# Altium schematic symbol library SCH_ConnectorHDR.SchLib: 36 symbols
Pins are listed as number, name and electrical type; pins without a type are passive.

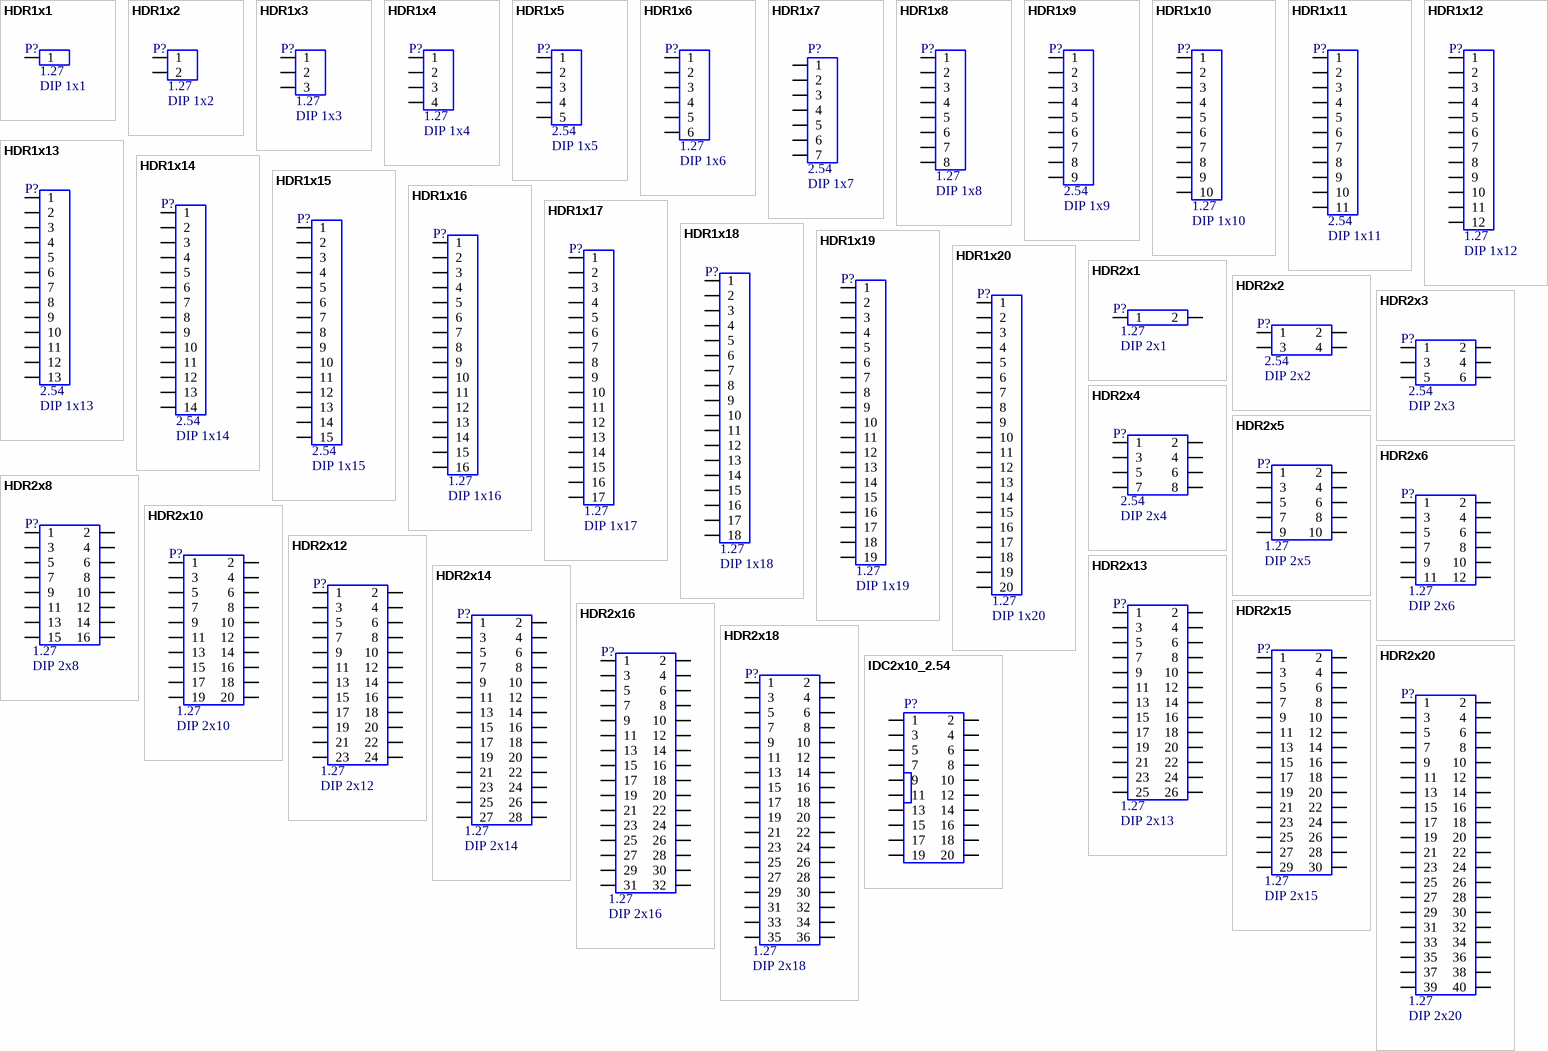
[diagram p0: symbols HDR1x1 to IDC2x10_2.54]

## HDR1x1
designator P?, comment Type: 1.27  (hidden comment: DIP 1x1)
Header; Value: DIP 1x1
footprint HDR1X1_1.27_180
pins: 1

## HDR1x2
designator P?, comment Type: 1.27  (hidden comment: DIP 1x2)
Header; Value: DIP 1x2
footprint HDR1X2_1.27_180
footprint HDR1X2_1.27_180H
footprint HDR1X2_2.54_90
footprint HDR1X2_2.54_90F
footprint HDR1X2_2.54_180
footprint HDR1X2_2.54_180F
footprint HDR1X2_2.54_180HD
pins: 1, 2

## HDR1x3
designator P?, comment Type: 1.27  (hidden comment: DIP 1x3)
Header; Value: DIP 1x3
footprint HDR1X3_1.27_180HF
footprint HDR1X3_2.54_90
footprint HDR1X3_1.27_180
footprint HDR1X3_2.54_90F
footprint HDR1X3_2.54_180
footprint HDR1X3_2.54_180F
pins: 1, 2, 3

## HDR1x4
designator P?, comment Type: 1.27  (hidden comment: DIP 1x4)
Header; Value: DIP 1x4
footprint HDR1X4_1.27_180HF
footprint HDR1X4_2.54_90
footprint HDR1X4_1.27_180
footprint HDR1X4_2.54_90F
footprint HDR1X4_2.54_180
footprint HDR1X4_1.27_180H
footprint HDR1X4_1.27_180F
footprint HDR1X4_2.54_180H
footprint HDR1X4_2.54_180HF
pins: 1, 2, 3, 4

## HDR1x5
designator P?, comment Type: 2.54  (hidden comment: DIP 1x5)
Header; Value: DIP 1x5
footprint HDR1X5_2.54_180
footprint HDR1X5_2.54_180H
pins: 1, 2, 3, 4, 5

## HDR1x6
designator P?, comment Type: 1.27  (hidden comment: DIP 1x6)
Header; Value: DIP 1x6
footprint HDR1X6_1.27_180HF
footprint HDR1X6_2.54_90
footprint HDR1X6_2.54_90F
footprint HDR1X6_2.54_180
footprint HDR1X6_1.27_180H
footprint HDR1X6_1.27_180F
footprint HDR1X6_2.54_180F
pins: 1, 2, 3, 4, 5, 6

## HDR1x7
designator P?, comment Type: 2.54  (hidden comment: DIP 1x7)
Header; Value: DIP 1x7
footprint HDR1X7_2.54_180
footprint HDR1X7_2.54_180H
pins: 1, 2, 3, 4, 5, 6, 7

## HDR1x8
designator P?, comment Type: 1.27  (hidden comment: DIP 1x8)
Header; Value: DIP 1x8
footprint HDR1X8_1.27_180HF
footprint HDR1X8_1.27_180
footprint HDR1X8_2.54_180
footprint HDR1X8_1.27_180H
footprint HDR1X8_1.27_180F
footprint HDR1X8_2.54_180F
footprint HDR1X8_2.54_180S
pins: 1, 2, 3, 4, 5, 6, 7, 8

## HDR1x9
designator P?, comment Type: 2.54  (hidden comment: DIP 1x9)
Header; Value: DIP 1x9
footprint HDR1X9_2.54_180
pins: 1, 2, 3, 4, 5, 6, 7, 8, 9

## HDR1x10
designator P?, comment Type: 1.27  (hidden comment: DIP 1x10)
Header; Value: DIP 1x10
footprint HDR1X10_1.27_180HF
footprint HDR1X10_2.54_90
footprint HDR1X10_1.27_180
footprint HDR1X10_2.54_180
footprint HDR1X10_1.27_180F
footprint HDR1X10_2.54_180H
footprint HDR1X10_2.54_180F
pins: 1, 2, 3, 4, 5, 6, 7, 8, 9, 10

## HDR1x11
designator P?, comment Type: 2.54  (hidden comment: DIP 1x11)
Header; Value: DIP 1x11
footprint HDR1X11_2.54_180
pins: 1, 2, 3, 4, 5, 6, 7, 8, 9, 10, 11

## HDR1x12
designator P?, comment Type: 1.27  (hidden comment: DIP 1x12)
Header; Value: DIP 1x12
footprint HDR1X12_2.54_90
footprint HDR1X12_1.27_180
footprint HDR1X12_2.54_180
footprint HDR1X12_2.54_180H
footprint HDR1X12_2.54_180F
pins: 1, 2, 3, 4, 5, 6, 7, 8, 9, 10, 11, 12

## HDR1x13
designator P?, comment Type: 2.54  (hidden comment: DIP 1x13)
Header; Value: DIP 1x13
footprint HDR1X13_2.54_180F
footprint HDR1X13_2.54_180
pins: 1, 2, 3, 4, 5, 6, 7, 8, 9, 10, 11, 12, 13

## HDR1x14
designator P?, comment Type: 2.54  (hidden comment: DIP 1x14)
Header; Value: DIP 1x14
footprint HDR1X14_2.54_180S
footprint HDR1X14_2.54_180
pins: 1, 2, 3, 4, 5, 6, 7, 8, 9, 10, 11, 12, 13, 14

## HDR1x15
designator P?, comment Type: 2.54  (hidden comment: DIP 1x15)
Header; Value: DIP 1x15
footprint HDR1X15_2.54_180
pins: 1, 2, 3, 4, 5, 6, 7, 8, 9, 10, 11, 12, 13, 14, 15

## HDR1x16
designator P?, comment Type: 1.27  (hidden comment: DIP 1x16)
Header; Value: DIP 1x16
footprint HDR1X16_1.27_180
footprint HDR1X16_1.27_180F
footprint HDR1X16_2.54_180
pins: 1, 2, 3, 4, 5, 6, 7, 8, 9, 10, 11, 12, 13, 14, 15, 16

## HDR1x17
designator P?, comment Type: 1.27  (hidden comment: DIP 1x17)
Header; Value: DIP 1x17
footprint HDR1X17_1.27_180
footprint HDR1X17_2.54_180
pins: 1, 2, 3, 4, 5, 6, 7, 8, 9, 10, 11, 12, 13, 14, 15, 16, 17

## HDR1x18
designator P?, comment Type: 1.27  (hidden comment: DIP 1x18)
Header; Value: DIP 1x18
footprint HDR1X18_2.54_180
pins: 1, 2, 3, 4, 5, 6, 7, 8, 9, 10, 11, 12, 13, 14, 15, 16, 17, 18

## HDR1x19
designator P?, comment Type: 1.27  (hidden comment: DIP 1x19)
Header; Value: DIP 1x19
pins: 1, 2, 3, 4, 5, 6, 7, 8, 9, 10, 11, 12, 13, 14, 15, 16, 17, 18, 19

## HDR1x20
designator P?, comment Type: 1.27  (hidden comment: DIP 1x20)
Header; Value: DIP 1x20
footprint HDR1X20_1.27_180
footprint HDR1X20_1.27_180F
footprint HDR1X20_2.54_180H
footprint HDR1X20_2.54_180
pins: 1, 2, 3, 4, 5, 6, 7, 8, 9, 10, 11, 12, 13, 14, 15, 16, 17, 18, 19, 20

## HDR2x1
designator P?, comment Type: 1.27  (hidden comment: DIP 2x1)
Header; Value: DIP 2x1
footprint HDR1X2_1.27_180
footprint HDR1X2_1.27_180H
footprint HDR1X2_2.54_90
footprint HDR1X2_2.54_90F
footprint HDR1X2_2.54_180
footprint HDR1X2_2.54_180F
footprint HDR1X2_2.54_180H
footprint HDR1X2_2.54_180HD
pins: 1, 2

## HDR2x2
designator P?, comment Type: 2.54  (hidden comment: DIP 2x2)
Header; Value: DIP 2x2
footprint HDR2X2_2.54_90
footprint HDR2X2_2.54_90F
footprint HDR2X2_2.54_180
footprint HDR2X2_2.54_180F
footprint HDR2X2_2.54_180H
pins: 1, 2, 3, 4

## HDR2x3
designator P?, comment Type: 2.54  (hidden comment: DIP 2x3)
Header; Value: DIP 2x3
footprint HDR2X3_2.54_90
footprint HDR2X3_2.54_90F
footprint HDR2X3_2.54_180
footprint HDR2X3_2.54_180F
footprint HDR2X3_2.54_180H
pins: 1, 2, 3, 4, 5, 6

## HDR2x4
designator P?, comment Type: 2.54  (hidden comment: DIP 2x4)
Header; Value: DIP 2x4
footprint HDR2X4_2.54_90
footprint HDR2X4_2.54_180
footprint HDR2X4_2.54_180F
footprint HDR2X4_2.54_180H
pins: 1, 2, 3, 4, 5, 6, 7, 8

## HDR2x5
designator P?, comment Type: 1.27  (hidden comment: DIP 2x5)
Header; Value: DIP 2x5
footprint HDR2X5_1.27_180S
footprint HDR2X5_2.54_180F
footprint HDR2X5_2.54_180
footprint HDR2X5_2.54_180H
pins: 1, 2, 3, 4, 5, 6, 7, 8, 9, 10

## HDR2x6
designator P?, comment Type: 1.27  (hidden comment: DIP 2x6)
Header; Value: DIP 2x6
footprint HDR2X5_1.27_180S
footprint HDR2X5_2.54_180F
footprint HDR2X5_2.54_180
footprint HDR2X6_1.27_180HF
pins: 1, 2, 3, 4, 5, 6, 7, 8, 9, 10, 11, 12

## HDR2x8
designator P?, comment Type: 1.27  (hidden comment: DIP 2x8)
Header; Value: DIP 2x8
footprint HDR2X8_2.54_90
footprint HDR2X8_2.54_90F
footprint HDR2X8_2.54_180F
footprint HDR2X8_2.54_180H
footprint HDR2X8_2.54_180
footprint HDR2X8_2.54_180S
footprint HDR2X8_2.54_180HF
pins: 1, 2, 3, 4, 5, 6, 7, 8, 9, 10, 11, 12, 13, 14, 15, 16

## HDR2x10
designator P?, comment Type: 1.27  (hidden comment: DIP 2x10)
Header; Value: DIP 2x10
footprint HDR2X10_2.54_90
footprint HDR2X10_2.54_90F
footprint HDR2X10_1.27_180S
footprint HDR2X10_2.54_180F
footprint HDR2X10_2.54_180H
footprint HDR2X10_2.54_180
footprint HDR2X10_2.54_180HF
footprint HDR2X10_1.27_180
footprint HDR2X10_1.27_180FS
footprint HDR2X10_1.27_180TBH
pins: 1, 2, 3, 4, 5, 6, 7, 8, 9, 10, 11, 12, 13, 14, 15, 16, 17, 18, 19, 20

## HDR2x12
designator P?, comment Type: 1.27  (hidden comment: DIP 2x12)
Header; Value: DIP 2x12
footprint HDR2X12_2.54_180F
footprint HDR2X12_2.54_180
footprint HDR2X12_1.27_180HF
footprint HDR2X12_2.54_180HF
pins: 1, 2, 3, 4, 5, 6, 7, 8, 9, 10, 11, 12, 13, 14, 15, 16, 17, 18, 19, 20, 21, 22, 23, 24

## HDR2x13
designator P?, comment Type: 1.27  (hidden comment: DIP 2x13)
Header; Value: DIP 2x13
footprint HDR2X13_2.54_180H
footprint HDR2X13_2.54_180HF
footprint HDR2X10_1.27_180
pins: 1, 2, 3, 4, 5, 6, 7, 8, 9, 10, 11, 12, 13, 14, 15, 16, 17, 18, 19, 20, 21, 22, 23, 24, 25, 26

## HDR2x14
designator P?, comment Type: 1.27  (hidden comment: DIP 2x14)
Header; Value: DIP 2x14
footprint HDR2X10_1.27_180S
footprint HDR2X10_1.27_180FS
footprint HDR2X10_1.27_180TBH
footprint HDR2X14_1.27_180
footprint HDR2X14_1.27_180H
footprint HDR2X14_1.27_180HF
pins: 1, 2, 3, 4, 5, 6, 7, 8, 9, 10, 11, 12, 13, 14, 15, 16, 17, 18, 19, 20, 21, 22, 23, 24, 25, 26, 27, 28

## HDR2x15
designator P?, comment Type: 1.27  (hidden comment: DIP 2x15)
Header; Value: DIP 2x15
footprint HDR2X15_1.27_180S
footprint HDR2X15_1.27_180
footprint HDR2X15_1.27_180H
footprint HDR2X15_1.27_180HF
pins: 1, 2, 3, 4, 5, 6, 7, 8, 9, 10, 11, 12, 13, 14, 15, 16, 17, 18, 19, 20, 21, 22, 23, 24, 25, 26, 27, 28, 29, 30

## HDR2x16
designator P?, comment Type: 1.27  (hidden comment: DIP 2x16)
Header; Value: DIP 2x16
footprint HDR2X16_2.54_180
footprint HDR2X10_1.27_180FS
footprint HDR2X10_1.27_180TBH
pins: 1, 2, 3, 4, 5, 6, 7, 8, 9, 10, 11, 12, 13, 14, 15, 16, 17, 18, 19, 20, 21, 22, 23, 24, 25, 26, 27, 28, 29, 30, 31, 32

## HDR2x18
designator P?, comment Type: 1.27  (hidden comment: DIP 2x18)
Header; Value: DIP 2x18
footprint HDR2X18_1.27_180
footprint HDR2X18_1.27_180H
pins: 1, 2, 3, 4, 5, 6, 7, 8, 9, 10, 11, 12, 13, 14, 15, 16, 17, 18, 19, 20, 21, 22, 23, 24, 25, 26, 27, 28, 29, 30, 31, 32, 33, 34, 35, 36

## HDR2x20
designator P?, comment Type: 1.27  (hidden comment: DIP 2x20)
Header; Value: DIP 2x20
footprint HDR2X20_2.54_180F
footprint HDR2X20_2.54_180
footprint HDR2X20_1.27_180
pins: 1, 2, 3, 4, 5, 6, 7, 8, 9, 10, 11, 12, 13, 14, 15, 16, 17, 18, 19, 20, 21, 22, 23, 24, 25, 26, 27, 28, 29, 30, 31, 32, 33, 34, 35, 36, 37, 38, 39, 40

## IDC2x10_2.54
designator P?  (value not drawn)
Header
footprint IDC2X10_2.54_180F
pins: 1, 2, 3, 4, 5, 6, 7, 8, 9, 10, 11, 12, 13, 14, 15, 16, 17, 18, 19, 20